# Altium footprint library SnapEDApcb.PcbLib: 1 footprints
Each footprint in its own frame and in the unit in brackets; x right, y up, seen from the top. Pads: shape width x height; smd on the part's side, far side on the other; paste and mask are expansions set on the pad; w line width, h text height; cw(c..) or ccw(c..) is an arc to the next point about the centre after c.
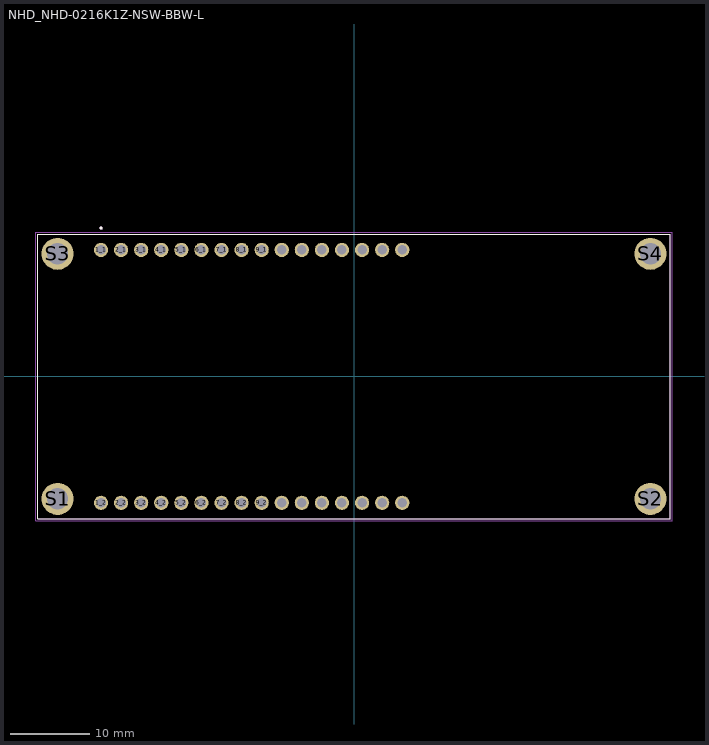
[diagram p0: the footprint, top view; thin cyan lines are the x and y axes]

## NHD_NHD-0216K1Z-NSW-BBW-L [mm]
pads (36):
  round 1.8 hole 1.2: 1_1(-32,16) 1_2(-32,-16) 2_1(-29.46,16) 2_2(-29.46,-16) 3_1(-26.92,16) 3_2(-26.92,-16) 4_1(-24.38,16) 4_2(-24.38,-16) 5_1(-21.84,16) 5_2(-21.84,-16) 6_1(-19.3,16) 6_2(-19.3,-16) 7_1(-16.76,16) 7_2(-16.76,-16) 8_1(-14.22,16) 8_2(-14.22,-16) 9_1(-11.68,16) 9_2(-11.68,-16) 10_1(-9.14,16) 10_2(-9.14,-16) 11_1(-6.6,16) 11_2(-6.6,-16) 12_1(-4.06,16) 12_2(-4.06,-16) 13_1(-1.52,16) 13_2(-1.52,-16) 14_1(1.02,16) 14_2(1.02,-16) 15_1(3.56,16) 15_2(3.56,-16) 16_1(6.1,16) 16_2(6.1,-16)
  round 4.05 hole 2.7: S1(-37.5,-15.5) S2(37.5,-15.5) S3(-37.5,15.5) S4(37.5,15.5)
Top Overlay:
  circle w0.2: c-32,18.75 r0.1
  lines w0.127: -40,-18 40,-18 40,18 -40,18 -40,-18
Mechanical 13:
  circle w0.2: c-32,18.75 r0.1
  lines w0.127: -40,-18 40,-18 40,18 -40,18 -40,-18
Mechanical 15:
  lines w0.05: -40.25,-18.25 40.25,-18.25 40.25,18.25 -40.25,18.25 -40.25,-18.25